# EAGLE library part 691243110009 (library Eagle_WR-TBL+Rising+Cage+Clamp_rev20a)
WR-TBL Serie 2431 - 3.50 mm Horizontal cable entry with rising clamp KIND PROPERTIES Pitch 3.5 mm MATERIAL PROPERTIES Insulator Material PA6/66 Insulator Flammability Rating UL94 V-0 Insulator Color Green Contact Material Copper Alloy Contact Plating Nickel over Tin Contact Type Stamped Terminal Screw Material Steel Terminal Screw Plating Zinc Wire Guard Material Copper Alloy GENERAL INFORMATION Operating Temperature -30 up to +120 °C Compliance Lead free / RoHS ELECTRICAL PROPERTIES IR UL 10 A IR VDE 10 A Working Voltage [UL] 300 V (AC) Working Voltage [VDE] 130 V (AC) Withstanding Voltage [UL] 1600 V (AC) Withstanding Voltage [VDE] 1250 V (AC) Contact Resistance 20 mΩ Contact Resistance [UL] 20 mΩ Contact Resistance [VDE] 20 mΩ MECHANICAL PROPERTIES Wire Strip Length 6 (mm) Screw M2 Solid Wire Section (AWG) 30 to 16 (AWG) Solid Wire Section (Metric) 0.05 to 1.31 (mm²) Stranded Wire Section (AWG) 30 to 16 (AWG) Stranded Wire Section (Metric) 0.05 to 1.31 (mm²) CERTIFICATION UL Approval E150931 CAT. N°: CPA (3) VDE Approval 40015434 VDE Approval 40015434 TYPE: CPA PACKAGING PROPERTIES Packaging Box <https://katalog.we-online.com/media/images/v2/o32893v209%20Family_WR-TBL2_Series2431.jpg> Details see: https://katalog.we-online.com/en/em/TBL_3_50_2431_HORIZONTAL_ENTRY_MODULAR_W_RISING_CAGE_6912431100xx Updated by Ella Wu 2019-11-12 2019(C) Wurth Elektronik
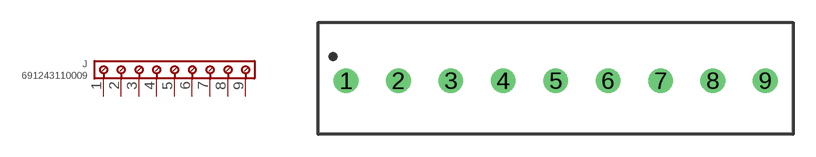
[diagram p24: symbol with the pads of 691243110009; footprint 691243110009]

Designator prefix J

## 691243110009 (DATASHEET-URL: https://www.we-online.com/redexpert/spec/691243110009?ae; IR-UL: 10A; IR-VDE: 10A; MOUNT: THT; PART-NUMBER: 691243110009; PINS: 9; PITCH: 3.5mm; TYPE: Horizontal; WIRE: 30 to 16 (AWG) 0.05 to 1.31 (mm²); WORKING-VOLTAGE-UL: 300V (AC); WORKING-VOLTAGE-VDE: 130V (AC))  [691243110009]
1  1  pas
2  2  pas
3  3  pas
4  4  pas
5  5  pas
6  6  pas
7  7  pas
8  8  pas
9  9  pas

## Footprint 691243110009 (pad centres in mm)
WR-TBL Serie 2431 - 3.50 mm Horizontal cable entry with rising clamp Max Height =9.1mm , Pitch 3.5mm , 9 Pins
drill 1.1: 1 -14,0; 2 -10.5,0; 3 -7,0; 4 -3.5,0; 5 0,0; 6 3.5,0; 7 7,0; 8 10.5,0; 9 14,0